# EAGLE library part TPS54360DDA (library Regulator)
TPS54360 60 V Input, 3.5 A, Step Down DC-DC Converter with Eco-mode™
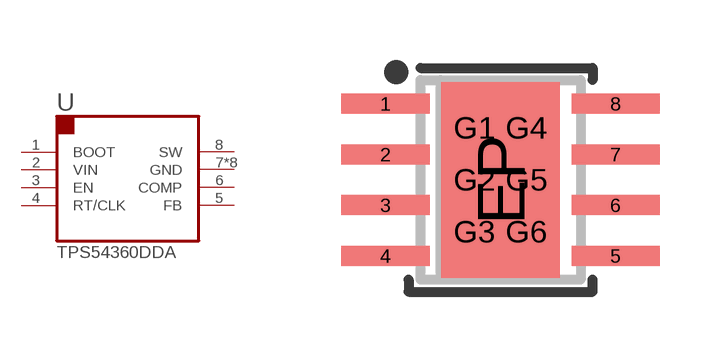
[diagram p7: symbol with the pads of 8-SOIC-EP; footprint 8-SOIC-EP]

Designator prefix U

## TPS54360DDA  [8-SOIC-EP]
1  BOOT  out
2  VIN  pwr
3  EN  in
4  RT/CLK  in
5  FB  in
6  COMP  out
7  GND  pwr
8  SW  in
EP  GND  pwr
G1  GND  pwr
G2  GND  pwr
G3  GND  pwr
G4  GND  pwr
G5  GND  pwr
G6  GND  pwr

## Footprint 8-SOIC-EP (pad centres in mm)
8-SOIC w/ Exposed Pad
smd 2.2 x 0.5: 1 -2.875,1.905; 2 -2.875,0.635; 3 -2.875,-0.635; 4 -2.875,-1.905; 5 2.875,-1.905; 6 2.875,-0.635; 7 2.875,0.635; 8 2.875,1.905
smd 2.95 x 4.9: EP 0,0
drill 0.33: G1 -0.65,1.3; G2 -0.65,0; G3 -0.65,-1.3; G4 0.65,1.3; G5 0.65,0; G6 0.65,-1.3